# Altium footprint library Fonex(X2).PcbLib: 1 footprints
Each footprint in its own frame and in the unit in brackets; x right, y up, seen from the top. Pads: shape width x height; smd on the part's side, far side on the other; paste and mask are expansions set on the pad; w line width, h text height; cw(c..) or ccw(c..) is an arc to the next point about the centre after c.
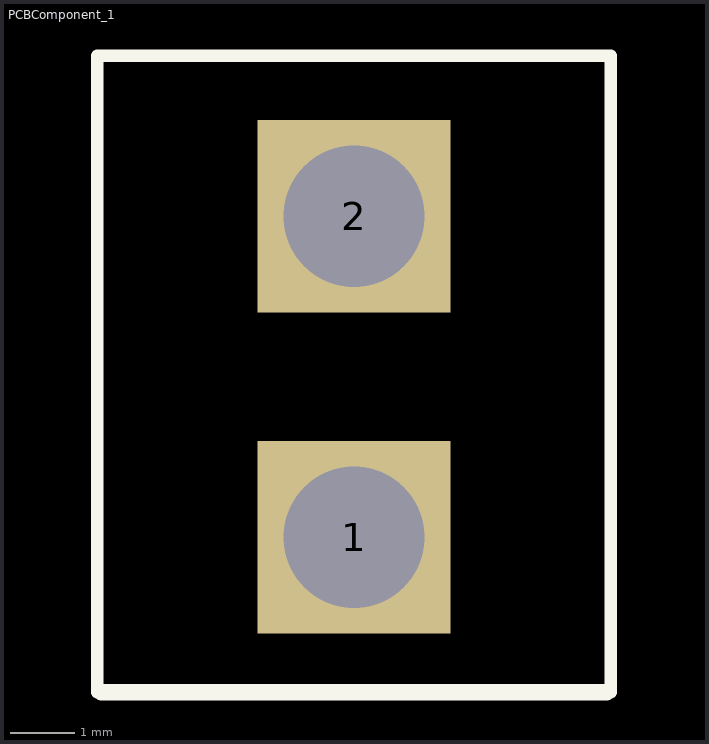
[diagram p0: the footprint, top view; thin cyan lines are the x and y axes]

## PCBComponent_1 [mm]
pads (2):
  rect 3x3 hole 2.2: 1(35.687,23.368) 2(35.687,28.368)
Top Overlay:
  lines w0.2: 31.687,20.955 31.687,30.868 39.687,30.868 39.687,20.955
  lines w0.254: 31.75,20.955 39.624,20.955